# Altium integrated library Microchip Microcontroller 8-Bit PIC17.IntLib: 400 symbols (part 3 of 18)
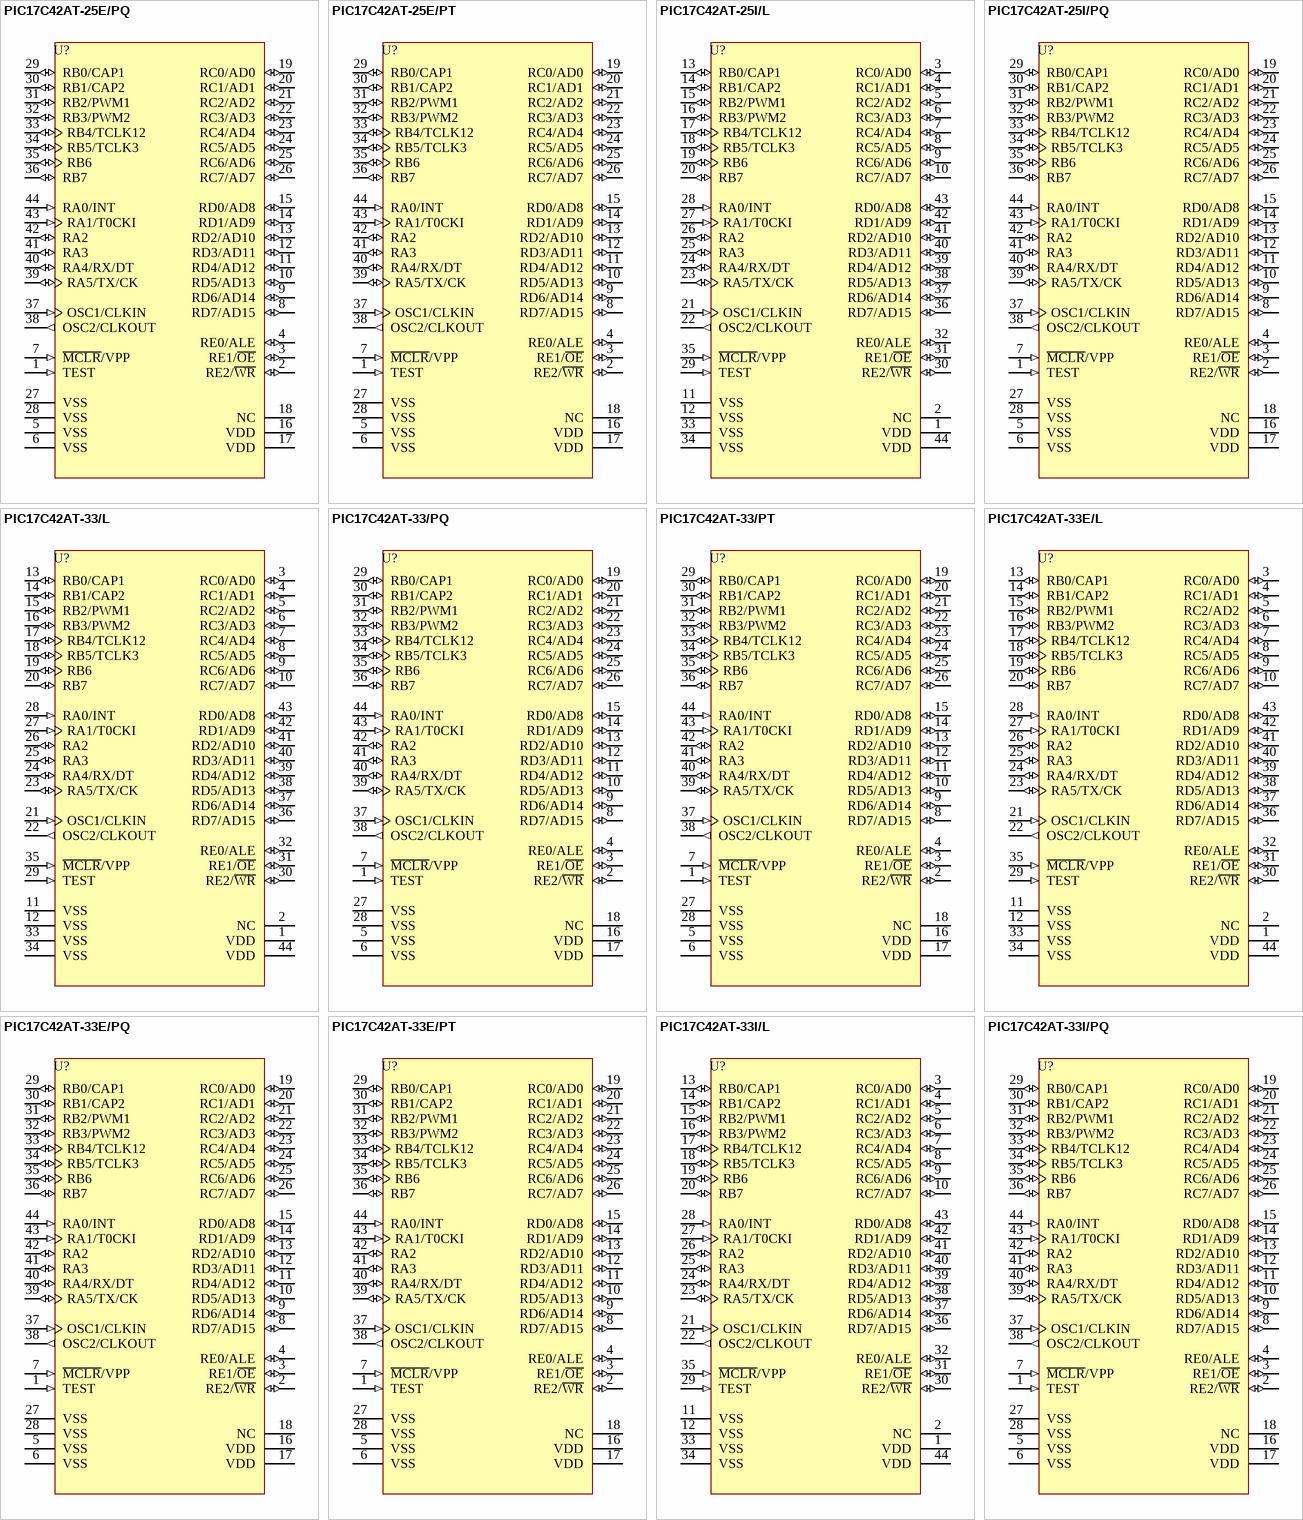
[diagram p44: symbols PIC17C42AT-25E/PQ to PIC17C42AT-33I/PQ]

## PIC17C42AT-25E/PQ
designator U?
High-Performance 8-Bit CMOS EPROM Microcontroller, 2K EPROM, 25 MHz, 44-Pin MQFP, Standard VDD Range, Extended Temperature, Tape and Reel; Note: Not recommended for new designs. Consider PIC18F4220 instead.; Note: Pins RA2 and RA3 can sink up to 60 mA.; Published: 11-Oct-2004; LatestRevisionDate: 13-Apr-2006; LatestRevisionNote: IPC-7351 Footprint Added.; DatasheetVersion: DS30412C_1996; PackageVersion: 2003; PackageReference: MQFP-44; Publisher: Altium Limited; PackageDescription: 44-Pin Plastic Metric Quad Flat Pack 0.8 mm Pitch, 1.6/0.15 mm Lead Form; Code_JEDEC: MS-022; Code_IPC: QFP80P1320X1320-44; ComponentLink1Description: Manufacturer Link; ComponentLink1URL: http://www.microchip.com; ComponentLink2Description: Datasheet; ComponentLink2URL: http://ww1.microchip.com/downloads/en/DeviceDoc/30412c.pdf; ComponentLink3Description: Packaging Specification; ComponentLink3URL: http://ww1.microchip.com/downloads/en/PackagingSpec/00049AD.pdf
footprint MQFP-44_N (QFP, 44-Leads, Body 10x10mm, Pitch 0.8mm, IPC Medium Density)
footprint MQFP-44_L (QFP, 44-Leads, Body 10x10mm, Pitch 0.8mm, IPC High Density)
footprint MQFP-44_M (QFP, 44-Leads, Body 10x10mm, Pitch 0.8mm, IPC Low Density)
3D model PIC17C42A-MQFP-44 (44-Pin Plastic Metric Quad Flat Pack 0.8 mm Pitch, 1.6/0.15 mm Lead Form)
pins: 1 TEST (in), 2 RE2/~{WR} (io), 3 RE1/~{OE} (io), 4 RE0/ALE (io), 5 VSS (power), 6 VSS (power), 7 ~{MCLR}/VPP (in), 8 RD7/AD15 (io), 9 RD6/AD14 (io), 10 RD5/AD13 (io), 11 RD4/AD12 (io), 12 RD3/AD11 (io), 13 RD2/AD10 (io), 14 RD1/AD9 (io), 15 RD0/AD8 (io), 16 VDD (power), 17 VDD (power), 18 NC, 19 RC0/AD0 (io), 20 RC1/AD1 (io), 21 RC2/AD2 (io), 22 RC3/AD3 (io), 23 RC4/AD4 (io), 24 RC5/AD5 (io), 25 RC6/AD6 (io), 26 RC7/AD7 (io), 27 VSS (power), 28 VSS (power), 29 RB0/CAP1 (io), 30 RB1/CAP2 (io), 31 RB2/PWM1 (io), 32 RB3/PWM2 (io), 33 RB4/TCLK12 (io), 34 RB5/TCLK3 (io), 35 RB6 (io), 36 RB7 (io), 37 OSC1/CLKIN (in), 38 OSC2/CLKOUT (out), 39 RA5/TX/CK (io), 40 RA4/RX/DT (io), 41 RA3 (io), 42 RA2 (io), 43 RA1/T0CKI (in), 44 RA0/INT (in)

## PIC17C42AT-25E/PT
designator U?
High-Performance 8-Bit CMOS EPROM Microcontroller, 2K EPROM, 25 MHz, 44-Pin TQFP, Standard VDD Range, Extended Temperature, Tape and Reel; Note: Not recommended for new designs. Consider PIC18F4220 instead.; Note: Pins RA2 and RA3 can sink up to 60 mA.; Published: 11-Oct-2004; LatestRevisionDate: 13-Apr-2006; LatestRevisionNote: IPC-7351 Footprint Added.; DatasheetVersion: DS30412C_1996; PackageVersion: 2003; PackageReference: TQFP-44; Publisher: Altium Limited; PackageDescription: 44-Pin Thin Quad Flat Pack 0.8 mm Pitch, 1.0/0.1 mm Lead Form; Code_JEDEC: MS-026; ComponentLink1Description: Manufacturer Link; ComponentLink1URL: http://www.microchip.com; ComponentLink2Description: Datasheet; ComponentLink2URL: http://ww1.microchip.com/downloads/en/DeviceDoc/30412c.pdf; ComponentLink3Description: Packaging Specification; ComponentLink3URL: http://ww1.microchip.com/downloads/en/PackagingSpec/00049AD.pdf
footprint TQFP-44_N (Thin QFP, 44-Leads, Body 10x10mm, Pitch 0.8mm, IPC Medium Density)
footprint TQFP-44_L (Thin QFP, 44-Leads, Body 10x10mm, Pitch 0.8mm, IPC High Density)
footprint TQFP-44_M (Thin QFP, 44-Leads, Body 10x10mm, Pitch 0.8mm, IPC Low Density)
3D model PIC17C42A-TQFP-44 (44-Pin Thin Quad Flat Pack 0.8 mm Pitch, 1.0/0.1 mm Lead Form)
pins: 1 TEST (in), 2 RE2/~{WR} (io), 3 RE1/~{OE} (io), 4 RE0/ALE (io), 5 VSS (power), 6 VSS (power), 7 ~{MCLR}/VPP (in), 8 RD7/AD15 (io), 9 RD6/AD14 (io), 10 RD5/AD13 (io), 11 RD4/AD12 (io), 12 RD3/AD11 (io), 13 RD2/AD10 (io), 14 RD1/AD9 (io), 15 RD0/AD8 (io), 16 VDD (power), 17 VDD (power), 18 NC, 19 RC0/AD0 (io), 20 RC1/AD1 (io), 21 RC2/AD2 (io), 22 RC3/AD3 (io), 23 RC4/AD4 (io), 24 RC5/AD5 (io), 25 RC6/AD6 (io), 26 RC7/AD7 (io), 27 VSS (power), 28 VSS (power), 29 RB0/CAP1 (io), 30 RB1/CAP2 (io), 31 RB2/PWM1 (io), 32 RB3/PWM2 (io), 33 RB4/TCLK12 (io), 34 RB5/TCLK3 (io), 35 RB6 (io), 36 RB7 (io), 37 OSC1/CLKIN (in), 38 OSC2/CLKOUT (out), 39 RA5/TX/CK (io), 40 RA4/RX/DT (io), 41 RA3 (io), 42 RA2 (io), 43 RA1/T0CKI (in), 44 RA0/INT (in)

## PIC17C42AT-25I/L
designator U?
High-Performance 8-Bit CMOS EPROM Microcontroller, 2K EPROM, 25 MHz, 44-Pin PLCC, Standard VDD Range, Industrial Temperature, Tape and Reel; Note: Not recommended for new designs. Consider PIC18F4220 instead.; Note: Pins RA2 and RA3 can sink up to 60 mA.; Published: 11-Oct-2004; LatestRevisionDate: 13-Apr-2006; LatestRevisionNote: IPC-7351 Footprint Added.; DatasheetVersion: DS30412C_1996; PackageVersion: 2003; PackageReference: PLCC-44; Publisher: Altium Limited; PackageDescription: 44-Pin Leaded Chip Carrier 1.27 mm Pitch; Code_JEDEC: MO-047; Code_IPC: PLCC-44; ComponentLink1Description: Manufacturer Link; ComponentLink1URL: http://www.microchip.com; ComponentLink2Description: Datasheet; ComponentLink2URL: http://ww1.microchip.com/downloads/en/DeviceDoc/30412c.pdf; ComponentLink3Description: Packaging Specification; ComponentLink3URL: http://ww1.microchip.com/downloads/en/PackagingSpec/00049AD.pdf
footprint PLCC-44_N (Leaded Chip Carrier, 44-Leads, Body 16.6x16.6mm, Pitch 1.27mm, IPC Medium Density)
footprint PLCC-44_L (Leaded Chip Carrier, 44-Leads, Body 16.6x16.6mm, Pitch 1.27mm, IPC High Density)
footprint PLCC-44_M (Leaded Chip Carrier, 44-Leads, Body 16.6x16.6mm, Pitch 1.27mm, IPC Low Density)
3D model PIC17C42A-PLCC-44 (44-Pin Leaded Chip Carrier 1.27 mm Pitch)
pins: 1 VDD (power), 2 NC, 3 RC0/AD0 (io), 4 RC1/AD1 (io), 5 RC2/AD2 (io), 6 RC3/AD3 (io), 7 RC4/AD4 (io), 8 RC5/AD5 (io), 9 RC6/AD6 (io), 10 RC7/AD7 (io), 11 VSS (power), 12 VSS (power), 13 RB0/CAP1 (io), 14 RB1/CAP2 (io), 15 RB2/PWM1 (io), 16 RB3/PWM2 (io), 17 RB4/TCLK12 (io), 18 RB5/TCLK3 (io), 19 RB6 (io), 20 RB7 (io), 21 OSC1/CLKIN (in), 22 OSC2/CLKOUT (out), 23 RA5/TX/CK (io), 24 RA4/RX/DT (io), 25 RA3 (io), 26 RA2 (io), 27 RA1/T0CKI (in), 28 RA0/INT (in), 29 TEST (in), 30 RE2/~{WR} (io), 31 RE1/~{OE} (io), 32 RE0/ALE (io), 33 VSS (power), 34 VSS (power), 35 ~{MCLR}/VPP (in), 36 RD7/AD15 (io), 37 RD6/AD14 (io), 38 RD5/AD13 (io), 39 RD4/AD12 (io), 40 RD3/AD11 (io), 41 RD2/AD10 (io), 42 RD1/AD9 (io), 43 RD0/AD8 (io), 44 VDD (power)

## PIC17C42AT-25I/PQ
designator U?
High-Performance 8-Bit CMOS EPROM Microcontroller, 2K EPROM, 25 MHz, 44-Pin MQFP, Standard VDD Range, Industrial Temperature, Tape and Reel; Note: Not recommended for new designs. Consider PIC18F4220 instead.; Note: Pins RA2 and RA3 can sink up to 60 mA.; Published: 11-Oct-2004; LatestRevisionDate: 13-Apr-2006; LatestRevisionNote: IPC-7351 Footprint Added.; DatasheetVersion: DS30412C_1996; PackageVersion: 2003; PackageReference: MQFP-44; Publisher: Altium Limited; PackageDescription: 44-Pin Plastic Metric Quad Flat Pack 0.8 mm Pitch, 1.6/0.15 mm Lead Form; Code_JEDEC: MS-022; Code_IPC: QFP80P1320X1320-44; ComponentLink1Description: Manufacturer Link; ComponentLink1URL: http://www.microchip.com; ComponentLink2Description: Datasheet; ComponentLink2URL: http://ww1.microchip.com/downloads/en/DeviceDoc/30412c.pdf; ComponentLink3Description: Packaging Specification; ComponentLink3URL: http://ww1.microchip.com/downloads/en/PackagingSpec/00049AD.pdf
footprint MQFP-44_N (QFP, 44-Leads, Body 10x10mm, Pitch 0.8mm, IPC Medium Density)
footprint MQFP-44_L (QFP, 44-Leads, Body 10x10mm, Pitch 0.8mm, IPC High Density)
footprint MQFP-44_M (QFP, 44-Leads, Body 10x10mm, Pitch 0.8mm, IPC Low Density)
3D model PIC17C42A-MQFP-44 (44-Pin Plastic Metric Quad Flat Pack 0.8 mm Pitch, 1.6/0.15 mm Lead Form)
pins: 1 TEST (in), 2 RE2/~{WR} (io), 3 RE1/~{OE} (io), 4 RE0/ALE (io), 5 VSS (power), 6 VSS (power), 7 ~{MCLR}/VPP (in), 8 RD7/AD15 (io), 9 RD6/AD14 (io), 10 RD5/AD13 (io), 11 RD4/AD12 (io), 12 RD3/AD11 (io), 13 RD2/AD10 (io), 14 RD1/AD9 (io), 15 RD0/AD8 (io), 16 VDD (power), 17 VDD (power), 18 NC, 19 RC0/AD0 (io), 20 RC1/AD1 (io), 21 RC2/AD2 (io), 22 RC3/AD3 (io), 23 RC4/AD4 (io), 24 RC5/AD5 (io), 25 RC6/AD6 (io), 26 RC7/AD7 (io), 27 VSS (power), 28 VSS (power), 29 RB0/CAP1 (io), 30 RB1/CAP2 (io), 31 RB2/PWM1 (io), 32 RB3/PWM2 (io), 33 RB4/TCLK12 (io), 34 RB5/TCLK3 (io), 35 RB6 (io), 36 RB7 (io), 37 OSC1/CLKIN (in), 38 OSC2/CLKOUT (out), 39 RA5/TX/CK (io), 40 RA4/RX/DT (io), 41 RA3 (io), 42 RA2 (io), 43 RA1/T0CKI (in), 44 RA0/INT (in)

## PIC17C42AT-33/L
designator U?
High-Performance 8-Bit CMOS EPROM Microcontroller, 2K EPROM, 33 MHz, 44-Pin PLCC, Standard VDD Range, Commercial Temperature, Tape and Reel; Note: Not recommended for new designs. Consider PIC18F4220 instead.; Note: Pins RA2 and RA3 can sink up to 60 mA.; Published: 11-Oct-2004; LatestRevisionDate: 13-Apr-2006; LatestRevisionNote: IPC-7351 Footprint Added.; DatasheetVersion: DS30412C_1996; PackageVersion: 2003; PackageReference: PLCC-44; Publisher: Altium Limited; PackageDescription: 44-Pin Leaded Chip Carrier 1.27 mm Pitch; Code_JEDEC: MO-047; Code_IPC: PLCC-44; ComponentLink1Description: Manufacturer Link; ComponentLink1URL: http://www.microchip.com; ComponentLink2Description: Datasheet; ComponentLink2URL: http://ww1.microchip.com/downloads/en/DeviceDoc/30412c.pdf; ComponentLink3Description: Packaging Specification; ComponentLink3URL: http://ww1.microchip.com/downloads/en/PackagingSpec/00049AD.pdf
footprint PLCC-44_N (Leaded Chip Carrier, 44-Leads, Body 16.6x16.6mm, Pitch 1.27mm, IPC Medium Density)
footprint PLCC-44_L (Leaded Chip Carrier, 44-Leads, Body 16.6x16.6mm, Pitch 1.27mm, IPC High Density)
footprint PLCC-44_M (Leaded Chip Carrier, 44-Leads, Body 16.6x16.6mm, Pitch 1.27mm, IPC Low Density)
3D model PIC17C42A-PLCC-44 (44-Pin Leaded Chip Carrier 1.27 mm Pitch)
pins: 1 VDD (power), 2 NC, 3 RC0/AD0 (io), 4 RC1/AD1 (io), 5 RC2/AD2 (io), 6 RC3/AD3 (io), 7 RC4/AD4 (io), 8 RC5/AD5 (io), 9 RC6/AD6 (io), 10 RC7/AD7 (io), 11 VSS (power), 12 VSS (power), 13 RB0/CAP1 (io), 14 RB1/CAP2 (io), 15 RB2/PWM1 (io), 16 RB3/PWM2 (io), 17 RB4/TCLK12 (io), 18 RB5/TCLK3 (io), 19 RB6 (io), 20 RB7 (io), 21 OSC1/CLKIN (in), 22 OSC2/CLKOUT (out), 23 RA5/TX/CK (io), 24 RA4/RX/DT (io), 25 RA3 (io), 26 RA2 (io), 27 RA1/T0CKI (in), 28 RA0/INT (in), 29 TEST (in), 30 RE2/~{WR} (io), 31 RE1/~{OE} (io), 32 RE0/ALE (io), 33 VSS (power), 34 VSS (power), 35 ~{MCLR}/VPP (in), 36 RD7/AD15 (io), 37 RD6/AD14 (io), 38 RD5/AD13 (io), 39 RD4/AD12 (io), 40 RD3/AD11 (io), 41 RD2/AD10 (io), 42 RD1/AD9 (io), 43 RD0/AD8 (io), 44 VDD (power)

## PIC17C42AT-33/PQ
designator U?
High-Performance 8-Bit CMOS EPROM Microcontroller, 2K EPROM, 33 MHz, 44-Pin MQFP, Standard VDD Range, Commercial Temperature, Tape and Reel; Note: Not recommended for new designs. Consider PIC18F4220 instead.; Note: Pins RA2 and RA3 can sink up to 60 mA.; Published: 11-Oct-2004; LatestRevisionDate: 13-Apr-2006; LatestRevisionNote: IPC-7351 Footprint Added.; DatasheetVersion: DS30412C_1996; PackageVersion: 2003; PackageReference: MQFP-44; Publisher: Altium Limited; PackageDescription: 44-Pin Plastic Metric Quad Flat Pack 0.8 mm Pitch, 1.6/0.15 mm Lead Form; Code_JEDEC: MS-022; Code_IPC: QFP80P1320X1320-44; ComponentLink1Description: Manufacturer Link; ComponentLink1URL: http://www.microchip.com; ComponentLink2Description: Datasheet; ComponentLink2URL: http://ww1.microchip.com/downloads/en/DeviceDoc/30412c.pdf; ComponentLink3Description: Packaging Specification; ComponentLink3URL: http://ww1.microchip.com/downloads/en/PackagingSpec/00049AD.pdf
footprint MQFP-44_N (QFP, 44-Leads, Body 10x10mm, Pitch 0.8mm, IPC Medium Density)
footprint MQFP-44_L (QFP, 44-Leads, Body 10x10mm, Pitch 0.8mm, IPC High Density)
footprint MQFP-44_M (QFP, 44-Leads, Body 10x10mm, Pitch 0.8mm, IPC Low Density)
3D model PIC17C42A-MQFP-44 (44-Pin Plastic Metric Quad Flat Pack 0.8 mm Pitch, 1.6/0.15 mm Lead Form)
pins: 1 TEST (in), 2 RE2/~{WR} (io), 3 RE1/~{OE} (io), 4 RE0/ALE (io), 5 VSS (power), 6 VSS (power), 7 ~{MCLR}/VPP (in), 8 RD7/AD15 (io), 9 RD6/AD14 (io), 10 RD5/AD13 (io), 11 RD4/AD12 (io), 12 RD3/AD11 (io), 13 RD2/AD10 (io), 14 RD1/AD9 (io), 15 RD0/AD8 (io), 16 VDD (power), 17 VDD (power), 18 NC, 19 RC0/AD0 (io), 20 RC1/AD1 (io), 21 RC2/AD2 (io), 22 RC3/AD3 (io), 23 RC4/AD4 (io), 24 RC5/AD5 (io), 25 RC6/AD6 (io), 26 RC7/AD7 (io), 27 VSS (power), 28 VSS (power), 29 RB0/CAP1 (io), 30 RB1/CAP2 (io), 31 RB2/PWM1 (io), 32 RB3/PWM2 (io), 33 RB4/TCLK12 (io), 34 RB5/TCLK3 (io), 35 RB6 (io), 36 RB7 (io), 37 OSC1/CLKIN (in), 38 OSC2/CLKOUT (out), 39 RA5/TX/CK (io), 40 RA4/RX/DT (io), 41 RA3 (io), 42 RA2 (io), 43 RA1/T0CKI (in), 44 RA0/INT (in)

## PIC17C42AT-33/PT
designator U?
High-Performance 8-Bit CMOS EPROM Microcontroller, 2K EPROM, 33 MHz, 44-Pin TQFP, Standard VDD Range, Commercial Temperature, Tape and Reel; Note: Not recommended for new designs. Consider PIC18F4220 instead.; Note: Pins RA2 and RA3 can sink up to 60 mA.; Published: 11-Oct-2004; LatestRevisionDate: 13-Apr-2006; LatestRevisionNote: IPC-7351 Footprint Added.; DatasheetVersion: DS30412C_1996; PackageVersion: 2003; PackageReference: TQFP-44; Publisher: Altium Limited; PackageDescription: 44-Pin Thin Quad Flat Pack 0.8 mm Pitch, 1.0/0.1 mm Lead Form; Code_JEDEC: MS-026; ComponentLink1Description: Manufacturer Link; ComponentLink1URL: http://www.microchip.com; ComponentLink2Description: Datasheet; ComponentLink2URL: http://ww1.microchip.com/downloads/en/DeviceDoc/30412c.pdf; ComponentLink3Description: Packaging Specification; ComponentLink3URL: http://ww1.microchip.com/downloads/en/PackagingSpec/00049AD.pdf
footprint TQFP-44_N (Thin QFP, 44-Leads, Body 10x10mm, Pitch 0.8mm, IPC Medium Density)
footprint TQFP-44_L (Thin QFP, 44-Leads, Body 10x10mm, Pitch 0.8mm, IPC High Density)
footprint TQFP-44_M (Thin QFP, 44-Leads, Body 10x10mm, Pitch 0.8mm, IPC Low Density)
3D model PIC17C42A-TQFP-44 (44-Pin Thin Quad Flat Pack 0.8 mm Pitch, 1.0/0.1 mm Lead Form)
pins: 1 TEST (in), 2 RE2/~{WR} (io), 3 RE1/~{OE} (io), 4 RE0/ALE (io), 5 VSS (power), 6 VSS (power), 7 ~{MCLR}/VPP (in), 8 RD7/AD15 (io), 9 RD6/AD14 (io), 10 RD5/AD13 (io), 11 RD4/AD12 (io), 12 RD3/AD11 (io), 13 RD2/AD10 (io), 14 RD1/AD9 (io), 15 RD0/AD8 (io), 16 VDD (power), 17 VDD (power), 18 NC, 19 RC0/AD0 (io), 20 RC1/AD1 (io), 21 RC2/AD2 (io), 22 RC3/AD3 (io), 23 RC4/AD4 (io), 24 RC5/AD5 (io), 25 RC6/AD6 (io), 26 RC7/AD7 (io), 27 VSS (power), 28 VSS (power), 29 RB0/CAP1 (io), 30 RB1/CAP2 (io), 31 RB2/PWM1 (io), 32 RB3/PWM2 (io), 33 RB4/TCLK12 (io), 34 RB5/TCLK3 (io), 35 RB6 (io), 36 RB7 (io), 37 OSC1/CLKIN (in), 38 OSC2/CLKOUT (out), 39 RA5/TX/CK (io), 40 RA4/RX/DT (io), 41 RA3 (io), 42 RA2 (io), 43 RA1/T0CKI (in), 44 RA0/INT (in)

## PIC17C42AT-33E/L
designator U?
High-Performance 8-Bit CMOS EPROM Microcontroller, 2K EPROM, 33 MHz, 44-Pin PLCC, Standard VDD Range, Extended Temperature, Tape and Reel; Note: Not recommended for new designs. Consider PIC18F4220 instead.; Note: Pins RA2 and RA3 can sink up to 60 mA.; Published: 11-Oct-2004; LatestRevisionDate: 13-Apr-2006; LatestRevisionNote: IPC-7351 Footprint Added.; DatasheetVersion: DS30412C_1996; PackageVersion: 2003; PackageReference: PLCC-44; Publisher: Altium Limited; PackageDescription: 44-Pin Leaded Chip Carrier 1.27 mm Pitch; Code_JEDEC: MO-047; Code_IPC: PLCC-44; ComponentLink1Description: Manufacturer Link; ComponentLink1URL: http://www.microchip.com; ComponentLink2Description: Datasheet; ComponentLink2URL: http://ww1.microchip.com/downloads/en/DeviceDoc/30412c.pdf; ComponentLink3Description: Packaging Specification; ComponentLink3URL: http://ww1.microchip.com/downloads/en/PackagingSpec/00049AD.pdf
footprint PLCC-44_N (Leaded Chip Carrier, 44-Leads, Body 16.6x16.6mm, Pitch 1.27mm, IPC Medium Density)
footprint PLCC-44_L (Leaded Chip Carrier, 44-Leads, Body 16.6x16.6mm, Pitch 1.27mm, IPC High Density)
footprint PLCC-44_M (Leaded Chip Carrier, 44-Leads, Body 16.6x16.6mm, Pitch 1.27mm, IPC Low Density)
3D model PIC17C42A-PLCC-44 (44-Pin Leaded Chip Carrier 1.27 mm Pitch)
pins: 1 VDD (power), 2 NC, 3 RC0/AD0 (io), 4 RC1/AD1 (io), 5 RC2/AD2 (io), 6 RC3/AD3 (io), 7 RC4/AD4 (io), 8 RC5/AD5 (io), 9 RC6/AD6 (io), 10 RC7/AD7 (io), 11 VSS (power), 12 VSS (power), 13 RB0/CAP1 (io), 14 RB1/CAP2 (io), 15 RB2/PWM1 (io), 16 RB3/PWM2 (io), 17 RB4/TCLK12 (io), 18 RB5/TCLK3 (io), 19 RB6 (io), 20 RB7 (io), 21 OSC1/CLKIN (in), 22 OSC2/CLKOUT (out), 23 RA5/TX/CK (io), 24 RA4/RX/DT (io), 25 RA3 (io), 26 RA2 (io), 27 RA1/T0CKI (in), 28 RA0/INT (in), 29 TEST (in), 30 RE2/~{WR} (io), 31 RE1/~{OE} (io), 32 RE0/ALE (io), 33 VSS (power), 34 VSS (power), 35 ~{MCLR}/VPP (in), 36 RD7/AD15 (io), 37 RD6/AD14 (io), 38 RD5/AD13 (io), 39 RD4/AD12 (io), 40 RD3/AD11 (io), 41 RD2/AD10 (io), 42 RD1/AD9 (io), 43 RD0/AD8 (io), 44 VDD (power)

## PIC17C42AT-33E/PQ
designator U?
High-Performance 8-Bit CMOS EPROM Microcontroller, 2K EPROM, 33 MHz, 44-Pin MQFP, Standard VDD Range, Extended Temperature, Tape and Reel; Note: Not recommended for new designs. Consider PIC18F4220 instead.; Note: Pins RA2 and RA3 can sink up to 60 mA.; Published: 11-Oct-2004; LatestRevisionDate: 13-Apr-2006; LatestRevisionNote: IPC-7351 Footprint Added.; DatasheetVersion: DS30412C_1996; PackageVersion: 2003; PackageReference: MQFP-44; Publisher: Altium Limited; PackageDescription: 44-Pin Plastic Metric Quad Flat Pack 0.8 mm Pitch, 1.6/0.15 mm Lead Form; Code_JEDEC: MS-022; Code_IPC: QFP80P1320X1320-44; ComponentLink1Description: Manufacturer Link; ComponentLink1URL: http://www.microchip.com; ComponentLink2Description: Datasheet; ComponentLink2URL: http://ww1.microchip.com/downloads/en/DeviceDoc/30412c.pdf; ComponentLink3Description: Packaging Specification; ComponentLink3URL: http://ww1.microchip.com/downloads/en/PackagingSpec/00049AD.pdf
footprint MQFP-44_N (QFP, 44-Leads, Body 10x10mm, Pitch 0.8mm, IPC Medium Density)
footprint MQFP-44_L (QFP, 44-Leads, Body 10x10mm, Pitch 0.8mm, IPC High Density)
footprint MQFP-44_M (QFP, 44-Leads, Body 10x10mm, Pitch 0.8mm, IPC Low Density)
3D model PIC17C42A-MQFP-44 (44-Pin Plastic Metric Quad Flat Pack 0.8 mm Pitch, 1.6/0.15 mm Lead Form)
pins: 1 TEST (in), 2 RE2/~{WR} (io), 3 RE1/~{OE} (io), 4 RE0/ALE (io), 5 VSS (power), 6 VSS (power), 7 ~{MCLR}/VPP (in), 8 RD7/AD15 (io), 9 RD6/AD14 (io), 10 RD5/AD13 (io), 11 RD4/AD12 (io), 12 RD3/AD11 (io), 13 RD2/AD10 (io), 14 RD1/AD9 (io), 15 RD0/AD8 (io), 16 VDD (power), 17 VDD (power), 18 NC, 19 RC0/AD0 (io), 20 RC1/AD1 (io), 21 RC2/AD2 (io), 22 RC3/AD3 (io), 23 RC4/AD4 (io), 24 RC5/AD5 (io), 25 RC6/AD6 (io), 26 RC7/AD7 (io), 27 VSS (power), 28 VSS (power), 29 RB0/CAP1 (io), 30 RB1/CAP2 (io), 31 RB2/PWM1 (io), 32 RB3/PWM2 (io), 33 RB4/TCLK12 (io), 34 RB5/TCLK3 (io), 35 RB6 (io), 36 RB7 (io), 37 OSC1/CLKIN (in), 38 OSC2/CLKOUT (out), 39 RA5/TX/CK (io), 40 RA4/RX/DT (io), 41 RA3 (io), 42 RA2 (io), 43 RA1/T0CKI (in), 44 RA0/INT (in)

## PIC17C42AT-33E/PT
designator U?
High-Performance 8-Bit CMOS EPROM Microcontroller, 2K EPROM, 33 MHz, 44-Pin TQFP, Standard VDD Range, Extended Temperature, Tape and Reel; Note: Not recommended for new designs. Consider PIC18F4220 instead.; Note: Pins RA2 and RA3 can sink up to 60 mA.; Published: 11-Oct-2004; LatestRevisionDate: 13-Apr-2006; LatestRevisionNote: IPC-7351 Footprint Added.; DatasheetVersion: DS30412C_1996; PackageVersion: 2003; PackageReference: TQFP-44; Publisher: Altium Limited; PackageDescription: 44-Pin Thin Quad Flat Pack 0.8 mm Pitch, 1.0/0.1 mm Lead Form; Code_JEDEC: MS-026; ComponentLink1Description: Manufacturer Link; ComponentLink1URL: http://www.microchip.com; ComponentLink2Description: Datasheet; ComponentLink2URL: http://ww1.microchip.com/downloads/en/DeviceDoc/30412c.pdf; ComponentLink3Description: Packaging Specification; ComponentLink3URL: http://ww1.microchip.com/downloads/en/PackagingSpec/00049AD.pdf
footprint TQFP-44_N (Thin QFP, 44-Leads, Body 10x10mm, Pitch 0.8mm, IPC Medium Density)
footprint TQFP-44_L (Thin QFP, 44-Leads, Body 10x10mm, Pitch 0.8mm, IPC High Density)
footprint TQFP-44_M (Thin QFP, 44-Leads, Body 10x10mm, Pitch 0.8mm, IPC Low Density)
3D model PIC17C42A-TQFP-44 (44-Pin Thin Quad Flat Pack 0.8 mm Pitch, 1.0/0.1 mm Lead Form)
pins: 1 TEST (in), 2 RE2/~{WR} (io), 3 RE1/~{OE} (io), 4 RE0/ALE (io), 5 VSS (power), 6 VSS (power), 7 ~{MCLR}/VPP (in), 8 RD7/AD15 (io), 9 RD6/AD14 (io), 10 RD5/AD13 (io), 11 RD4/AD12 (io), 12 RD3/AD11 (io), 13 RD2/AD10 (io), 14 RD1/AD9 (io), 15 RD0/AD8 (io), 16 VDD (power), 17 VDD (power), 18 NC, 19 RC0/AD0 (io), 20 RC1/AD1 (io), 21 RC2/AD2 (io), 22 RC3/AD3 (io), 23 RC4/AD4 (io), 24 RC5/AD5 (io), 25 RC6/AD6 (io), 26 RC7/AD7 (io), 27 VSS (power), 28 VSS (power), 29 RB0/CAP1 (io), 30 RB1/CAP2 (io), 31 RB2/PWM1 (io), 32 RB3/PWM2 (io), 33 RB4/TCLK12 (io), 34 RB5/TCLK3 (io), 35 RB6 (io), 36 RB7 (io), 37 OSC1/CLKIN (in), 38 OSC2/CLKOUT (out), 39 RA5/TX/CK (io), 40 RA4/RX/DT (io), 41 RA3 (io), 42 RA2 (io), 43 RA1/T0CKI (in), 44 RA0/INT (in)

## PIC17C42AT-33I/L
designator U?
High-Performance 8-Bit CMOS EPROM Microcontroller, 2K EPROM, 33 MHz, 44-Pin PLCC, Standard VDD Range, Industrial Temperature, Tape and Reel; Note: Not recommended for new designs. Consider PIC18F4220 instead.; Note: Pins RA2 and RA3 can sink up to 60 mA.; Published: 11-Oct-2004; LatestRevisionDate: 13-Apr-2006; LatestRevisionNote: IPC-7351 Footprint Added.; DatasheetVersion: DS30412C_1996; PackageVersion: 2003; PackageReference: PLCC-44; Publisher: Altium Limited; PackageDescription: 44-Pin Leaded Chip Carrier 1.27 mm Pitch; Code_JEDEC: MO-047; Code_IPC: PLCC-44; ComponentLink1Description: Manufacturer Link; ComponentLink1URL: http://www.microchip.com; ComponentLink2Description: Datasheet; ComponentLink2URL: http://ww1.microchip.com/downloads/en/DeviceDoc/30412c.pdf; ComponentLink3Description: Packaging Specification; ComponentLink3URL: http://ww1.microchip.com/downloads/en/PackagingSpec/00049AD.pdf
footprint PLCC-44_N (Leaded Chip Carrier, 44-Leads, Body 16.6x16.6mm, Pitch 1.27mm, IPC Medium Density)
footprint PLCC-44_L (Leaded Chip Carrier, 44-Leads, Body 16.6x16.6mm, Pitch 1.27mm, IPC High Density)
footprint PLCC-44_M (Leaded Chip Carrier, 44-Leads, Body 16.6x16.6mm, Pitch 1.27mm, IPC Low Density)
3D model PIC17C42A-PLCC-44 (44-Pin Leaded Chip Carrier 1.27 mm Pitch)
pins: 1 VDD (power), 2 NC, 3 RC0/AD0 (io), 4 RC1/AD1 (io), 5 RC2/AD2 (io), 6 RC3/AD3 (io), 7 RC4/AD4 (io), 8 RC5/AD5 (io), 9 RC6/AD6 (io), 10 RC7/AD7 (io), 11 VSS (power), 12 VSS (power), 13 RB0/CAP1 (io), 14 RB1/CAP2 (io), 15 RB2/PWM1 (io), 16 RB3/PWM2 (io), 17 RB4/TCLK12 (io), 18 RB5/TCLK3 (io), 19 RB6 (io), 20 RB7 (io), 21 OSC1/CLKIN (in), 22 OSC2/CLKOUT (out), 23 RA5/TX/CK (io), 24 RA4/RX/DT (io), 25 RA3 (io), 26 RA2 (io), 27 RA1/T0CKI (in), 28 RA0/INT (in), 29 TEST (in), 30 RE2/~{WR} (io), 31 RE1/~{OE} (io), 32 RE0/ALE (io), 33 VSS (power), 34 VSS (power), 35 ~{MCLR}/VPP (in), 36 RD7/AD15 (io), 37 RD6/AD14 (io), 38 RD5/AD13 (io), 39 RD4/AD12 (io), 40 RD3/AD11 (io), 41 RD2/AD10 (io), 42 RD1/AD9 (io), 43 RD0/AD8 (io), 44 VDD (power)

## PIC17C42AT-33I/PQ
designator U?
High-Performance 8-Bit CMOS EPROM Microcontroller, 2K EPROM, 33 MHz, 44-Pin MQFP, Standard VDD Range, Industrial Temperature, Tape and Reel; Note: Not recommended for new designs. Consider PIC18F4220 instead.; Note: Pins RA2 and RA3 can sink up to 60 mA.; Published: 11-Oct-2004; LatestRevisionDate: 13-Apr-2006; LatestRevisionNote: IPC-7351 Footprint Added.; DatasheetVersion: DS30412C_1996; PackageVersion: 2003; PackageReference: MQFP-44; Publisher: Altium Limited; PackageDescription: 44-Pin Plastic Metric Quad Flat Pack 0.8 mm Pitch, 1.6/0.15 mm Lead Form; Code_JEDEC: MS-022; Code_IPC: QFP80P1320X1320-44; ComponentLink1Description: Manufacturer Link; ComponentLink1URL: http://www.microchip.com; ComponentLink2Description: Datasheet; ComponentLink2URL: http://ww1.microchip.com/downloads/en/DeviceDoc/30412c.pdf; ComponentLink3Description: Packaging Specification; ComponentLink3URL: http://ww1.microchip.com/downloads/en/PackagingSpec/00049AD.pdf
footprint MQFP-44_N (QFP, 44-Leads, Body 10x10mm, Pitch 0.8mm, IPC Medium Density)
footprint MQFP-44_L (QFP, 44-Leads, Body 10x10mm, Pitch 0.8mm, IPC High Density)
footprint MQFP-44_M (QFP, 44-Leads, Body 10x10mm, Pitch 0.8mm, IPC Low Density)
3D model PIC17C42A-MQFP-44 (44-Pin Plastic Metric Quad Flat Pack 0.8 mm Pitch, 1.6/0.15 mm Lead Form)
pins: 1 TEST (in), 2 RE2/~{WR} (io), 3 RE1/~{OE} (io), 4 RE0/ALE (io), 5 VSS (power), 6 VSS (power), 7 ~{MCLR}/VPP (in), 8 RD7/AD15 (io), 9 RD6/AD14 (io), 10 RD5/AD13 (io), 11 RD4/AD12 (io), 12 RD3/AD11 (io), 13 RD2/AD10 (io), 14 RD1/AD9 (io), 15 RD0/AD8 (io), 16 VDD (power), 17 VDD (power), 18 NC, 19 RC0/AD0 (io), 20 RC1/AD1 (io), 21 RC2/AD2 (io), 22 RC3/AD3 (io), 23 RC4/AD4 (io), 24 RC5/AD5 (io), 25 RC6/AD6 (io), 26 RC7/AD7 (io), 27 VSS (power), 28 VSS (power), 29 RB0/CAP1 (io), 30 RB1/CAP2 (io), 31 RB2/PWM1 (io), 32 RB3/PWM2 (io), 33 RB4/TCLK12 (io), 34 RB5/TCLK3 (io), 35 RB6 (io), 36 RB7 (io), 37 OSC1/CLKIN (in), 38 OSC2/CLKOUT (out), 39 RA5/TX/CK (io), 40 RA4/RX/DT (io), 41 RA3 (io), 42 RA2 (io), 43 RA1/T0CKI (in), 44 RA0/INT (in)

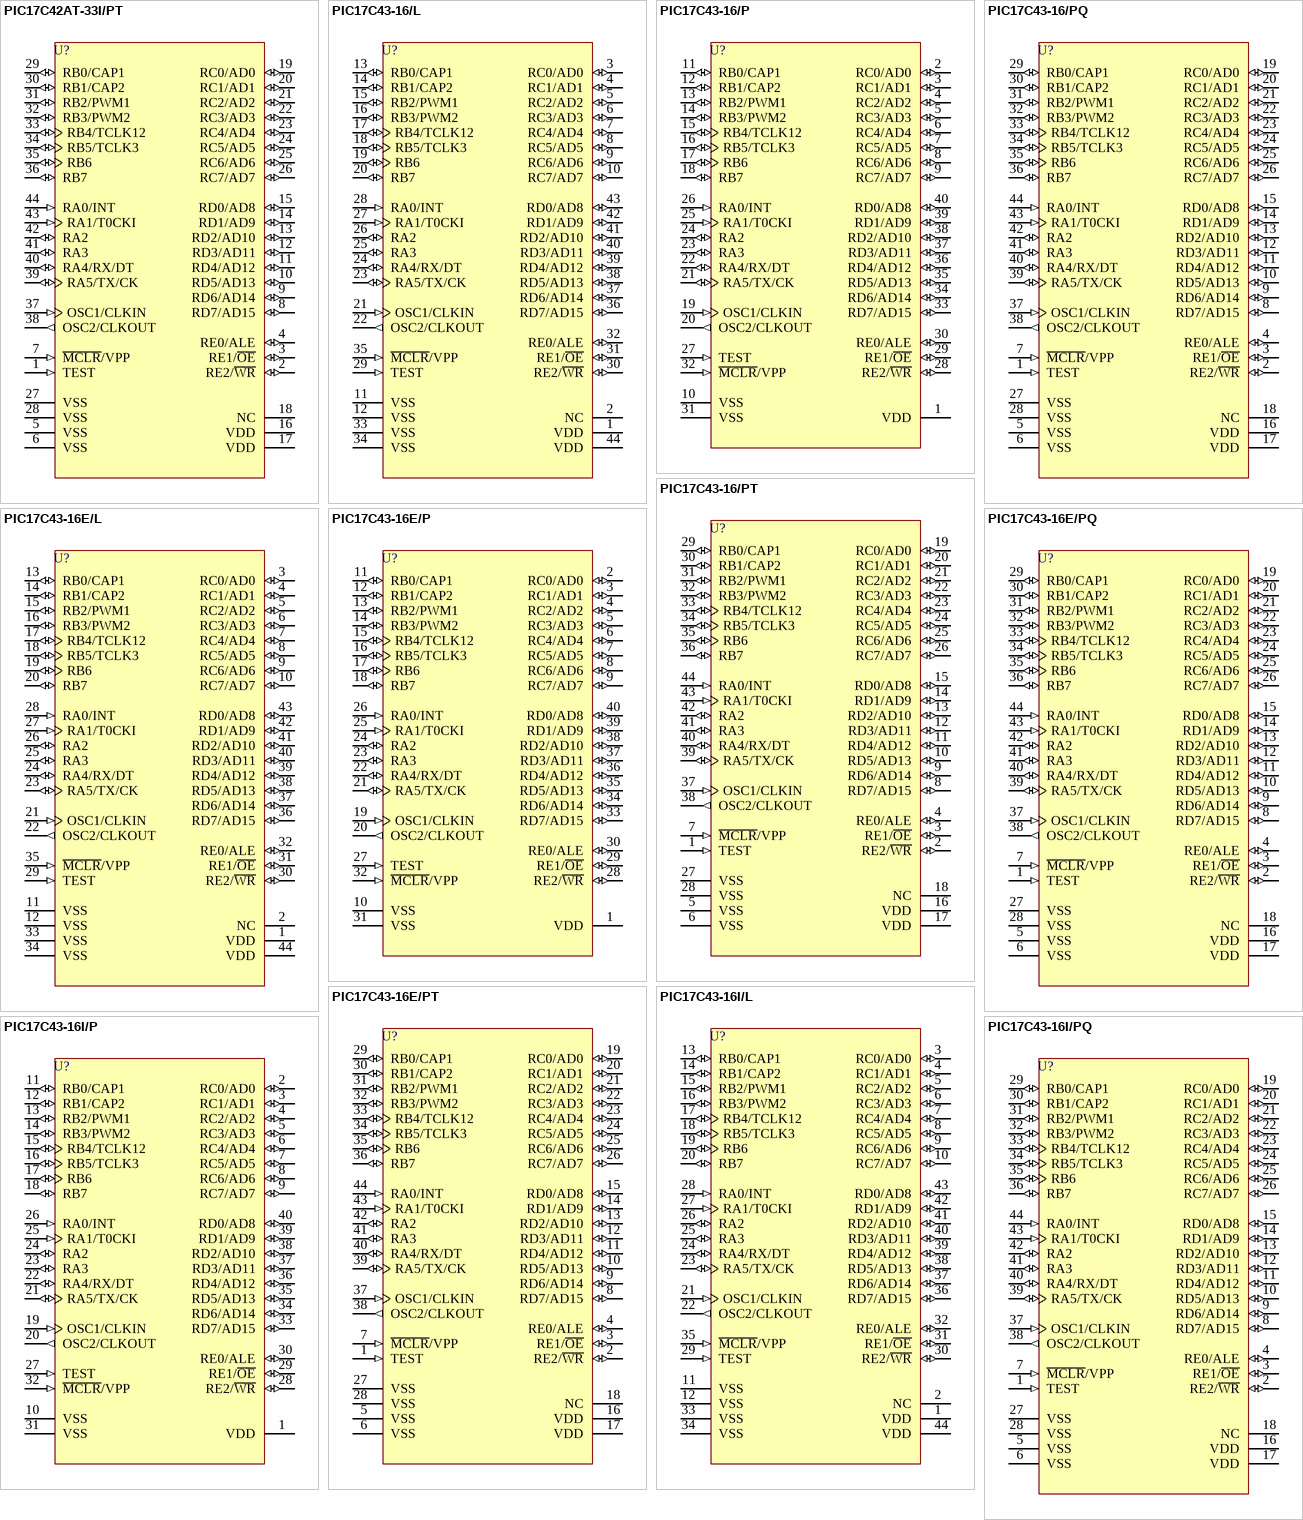
[diagram p5: symbols PIC17C42AT-33I/PT to PIC17C43-16I/PQ]

## PIC17C42AT-33I/PT
designator U?
High-Performance 8-Bit CMOS EPROM Microcontroller, 2K EPROM, 33 MHz, 44-Pin TQFP, Standard VDD Range, Industrial Temperature, Tape and Reel; Note: Not recommended for new designs. Consider PIC18F4220 instead.; Note: Pins RA2 and RA3 can sink up to 60 mA.; Published: 11-Oct-2004; LatestRevisionDate: 13-Apr-2006; LatestRevisionNote: IPC-7351 Footprint Added.; DatasheetVersion: DS30412C_1996; PackageVersion: 2003; PackageReference: TQFP-44; Publisher: Altium Limited; PackageDescription: 44-Pin Thin Quad Flat Pack 0.8 mm Pitch, 1.0/0.1 mm Lead Form; Code_JEDEC: MS-026; ComponentLink1Description: Manufacturer Link; ComponentLink1URL: http://www.microchip.com; ComponentLink2Description: Datasheet; ComponentLink2URL: http://ww1.microchip.com/downloads/en/DeviceDoc/30412c.pdf; ComponentLink3Description: Packaging Specification; ComponentLink3URL: http://ww1.microchip.com/downloads/en/PackagingSpec/00049AD.pdf
footprint TQFP-44_N (Thin QFP, 44-Leads, Body 10x10mm, Pitch 0.8mm, IPC Medium Density)
footprint TQFP-44_L (Thin QFP, 44-Leads, Body 10x10mm, Pitch 0.8mm, IPC High Density)
footprint TQFP-44_M (Thin QFP, 44-Leads, Body 10x10mm, Pitch 0.8mm, IPC Low Density)
3D model PIC17C42A-TQFP-44 (44-Pin Thin Quad Flat Pack 0.8 mm Pitch, 1.0/0.1 mm Lead Form)
pins: 1 TEST (in), 2 RE2/~{WR} (io), 3 RE1/~{OE} (io), 4 RE0/ALE (io), 5 VSS (power), 6 VSS (power), 7 ~{MCLR}/VPP (in), 8 RD7/AD15 (io), 9 RD6/AD14 (io), 10 RD5/AD13 (io), 11 RD4/AD12 (io), 12 RD3/AD11 (io), 13 RD2/AD10 (io), 14 RD1/AD9 (io), 15 RD0/AD8 (io), 16 VDD (power), 17 VDD (power), 18 NC, 19 RC0/AD0 (io), 20 RC1/AD1 (io), 21 RC2/AD2 (io), 22 RC3/AD3 (io), 23 RC4/AD4 (io), 24 RC5/AD5 (io), 25 RC6/AD6 (io), 26 RC7/AD7 (io), 27 VSS (power), 28 VSS (power), 29 RB0/CAP1 (io), 30 RB1/CAP2 (io), 31 RB2/PWM1 (io), 32 RB3/PWM2 (io), 33 RB4/TCLK12 (io), 34 RB5/TCLK3 (io), 35 RB6 (io), 36 RB7 (io), 37 OSC1/CLKIN (in), 38 OSC2/CLKOUT (out), 39 RA5/TX/CK (io), 40 RA4/RX/DT (io), 41 RA3 (io), 42 RA2 (io), 43 RA1/T0CKI (in), 44 RA0/INT (in)

## PIC17C43-16/L
designator U?
High-Performance 8-Bit CMOS EPROM Microcontroller, 4K EPROM, 16 MHz, 44-Pin PLCC, Standard VDD Range, Commercial Temperature; Note: Not recommended for new designs. Consider PIC18F4320 instead.; Note: Pins RA2 and RA3 can sink up to 60 mA.; Published: 11-Oct-2004; LatestRevisionDate: 13-Apr-2006; LatestRevisionNote: IPC-7351 Footprint Added.; DatasheetVersion: DS30412C_1996; PackageVersion: 2003; PackageReference: PLCC-44; Publisher: Altium Limited; PackageDescription: 44-Pin Leaded Chip Carrier 1.27 mm Pitch; Code_JEDEC: MO-047; Code_IPC: PLCC-44; ComponentLink1Description: Manufacturer Link; ComponentLink1URL: http://www.microchip.com; ComponentLink2Description: Datasheet; ComponentLink2URL: http://ww1.microchip.com/downloads/en/DeviceDoc/30412c.pdf; ComponentLink3Description: Packaging Specification; ComponentLink3URL: http://ww1.microchip.com/downloads/en/PackagingSpec/00049AD.pdf
footprint PLCC-44_N (Leaded Chip Carrier, 44-Leads, Body 16.6x16.6mm, Pitch 1.27mm, IPC Medium Density)
footprint PLCC-44_L (Leaded Chip Carrier, 44-Leads, Body 16.6x16.6mm, Pitch 1.27mm, IPC High Density)
footprint PLCC-44_M (Leaded Chip Carrier, 44-Leads, Body 16.6x16.6mm, Pitch 1.27mm, IPC Low Density)
3D model PIC17C43-PLCC-44 (44-Pin Leaded Chip Carrier 1.27 mm Pitch)
pins: 1 VDD (power), 2 NC, 3 RC0/AD0 (io), 4 RC1/AD1 (io), 5 RC2/AD2 (io), 6 RC3/AD3 (io), 7 RC4/AD4 (io), 8 RC5/AD5 (io), 9 RC6/AD6 (io), 10 RC7/AD7 (io), 11 VSS (power), 12 VSS (power), 13 RB0/CAP1 (io), 14 RB1/CAP2 (io), 15 RB2/PWM1 (io), 16 RB3/PWM2 (io), 17 RB4/TCLK12 (io), 18 RB5/TCLK3 (io), 19 RB6 (io), 20 RB7 (io), 21 OSC1/CLKIN (in), 22 OSC2/CLKOUT (out), 23 RA5/TX/CK (io), 24 RA4/RX/DT (io), 25 RA3 (io), 26 RA2 (io), 27 RA1/T0CKI (in), 28 RA0/INT (in), 29 TEST (in), 30 RE2/~{WR} (io), 31 RE1/~{OE} (io), 32 RE0/ALE (io), 33 VSS (power), 34 VSS (power), 35 ~{MCLR}/VPP (in), 36 RD7/AD15 (io), 37 RD6/AD14 (io), 38 RD5/AD13 (io), 39 RD4/AD12 (io), 40 RD3/AD11 (io), 41 RD2/AD10 (io), 42 RD1/AD9 (io), 43 RD0/AD8 (io), 44 VDD (power)

## PIC17C43-16/P
designator U?
High-Performance 8-Bit CMOS EPROM Microcontroller, 4K EPROM, 16 MHz, 40-Pin PDIP, Standard VDD Range, Commercial Temperature; Note: Not recommended for new designs. Consider PIC18F4320 instead.; Note: Pins RA2 and RA3 can sink up to 60 mA.; Published: 11-Oct-2004; LatestRevisionDate: 04-Mar-2005; LatestRevisionNote: Stylized 3D Model Added.; DatasheetVersion: DS30412C_1996; PackageVersion: 2003; PackageReference: PDIP600-40; Publisher: Altium Limited; PackageDescription: DIP, Plastic; 40 Leads; Row Spacing 15.24 mm; Pitch 2.54 mm; Code_JEDEC: MO-011; ComponentLink1Description: Manufacturer Link; ComponentLink1URL: http://www.microchip.com; ComponentLink2Description: Datasheet; ComponentLink2URL: http://ww1.microchip.com/downloads/en/DeviceDoc/30412c.pdf; ComponentLink3Description: Packaging Specification; ComponentLink3URL: http://ww1.microchip.com/downloads/en/PackagingSpec/00049AD.pdf
footprint PDIP600-40 (DIP, Plastic; 40 Leads; Row Spacing 15.24 mm; Pitch 2.54 mm)
3D model PDIP600-40 (DIP, Plastic; 40 Leads; Row Spacing 15.24 mm; Pitch 2.54 mm)
pins: 1 VDD (power), 2 RC0/AD0 (io), 3 RC1/AD1 (io), 4 RC2/AD2 (io), 5 RC3/AD3 (io), 6 RC4/AD4 (io), 7 RC5/AD5 (io), 8 RC6/AD6 (io), 9 RC7/AD7 (io), 10 VSS (power), 11 RB0/CAP1 (io), 12 RB1/CAP2 (io), 13 RB2/PWM1 (io), 14 RB3/PWM2 (io), 15 RB4/TCLK12 (io), 16 RB5/TCLK3 (io), 17 RB6 (io), 18 RB7 (io), 19 OSC1/CLKIN (in), 20 OSC2/CLKOUT (out), 21 RA5/TX/CK (io), 22 RA4/RX/DT (io), 23 RA3 (io), 24 RA2 (io), 25 RA1/T0CKI (in), 26 RA0/INT (in), 27 TEST (in), 28 RE2/~{WR} (io), 29 RE1/~{OE} (io), 30 RE0/ALE (io), 31 VSS (power), 32 ~{MCLR}/VPP (in), 33 RD7/AD15 (io), 34 RD6/AD14 (io), 35 RD5/AD13 (io), 36 RD4/AD12 (io), 37 RD3/AD11 (io), 38 RD2/AD10 (io), 39 RD1/AD9 (io), 40 RD0/AD8 (io)

## PIC17C43-16/PQ
designator U?
High-Performance 8-Bit CMOS EPROM Microcontroller, 4K EPROM, 16 MHz, 44-Pin MQFP, Standard VDD Range, Commercial Temperature; Note: Not recommended for new designs. Consider PIC18F4320 instead.; Note: Pins RA2 and RA3 can sink up to 60 mA.; Published: 11-Oct-2004; LatestRevisionDate: 13-Apr-2006; LatestRevisionNote: IPC-7351 Footprint Added.; DatasheetVersion: DS30412C_1996; PackageVersion: 2003; PackageReference: MQFP-44; Publisher: Altium Limited; PackageDescription: 44-Pin Plastic Metric Quad Flat Pack 0.8 mm Pitch, 1.6/0.15 mm Lead Form; Code_JEDEC: MS-022; Code_IPC: QFP80P1320X1320-44; ComponentLink1Description: Manufacturer Link; ComponentLink1URL: http://www.microchip.com; ComponentLink2Description: Datasheet; ComponentLink2URL: http://ww1.microchip.com/downloads/en/DeviceDoc/30412c.pdf; ComponentLink3Description: Packaging Specification; ComponentLink3URL: http://ww1.microchip.com/downloads/en/PackagingSpec/00049AD.pdf
footprint MQFP-44_N (QFP, 44-Leads, Body 10x10mm, Pitch 0.8mm, IPC Medium Density)
footprint MQFP-44_L (QFP, 44-Leads, Body 10x10mm, Pitch 0.8mm, IPC High Density)
footprint MQFP-44_M (QFP, 44-Leads, Body 10x10mm, Pitch 0.8mm, IPC Low Density)
3D model PIC17C43-MQFP-44 (44-Pin Plastic Metric Quad Flat Pack 0.8 mm Pitch, 1.6/0.15 mm Lead Form)
pins: 1 TEST (in), 2 RE2/~{WR} (io), 3 RE1/~{OE} (io), 4 RE0/ALE (io), 5 VSS (power), 6 VSS (power), 7 ~{MCLR}/VPP (in), 8 RD7/AD15 (io), 9 RD6/AD14 (io), 10 RD5/AD13 (io), 11 RD4/AD12 (io), 12 RD3/AD11 (io), 13 RD2/AD10 (io), 14 RD1/AD9 (io), 15 RD0/AD8 (io), 16 VDD (power), 17 VDD (power), 18 NC, 19 RC0/AD0 (io), 20 RC1/AD1 (io), 21 RC2/AD2 (io), 22 RC3/AD3 (io), 23 RC4/AD4 (io), 24 RC5/AD5 (io), 25 RC6/AD6 (io), 26 RC7/AD7 (io), 27 VSS (power), 28 VSS (power), 29 RB0/CAP1 (io), 30 RB1/CAP2 (io), 31 RB2/PWM1 (io), 32 RB3/PWM2 (io), 33 RB4/TCLK12 (io), 34 RB5/TCLK3 (io), 35 RB6 (io), 36 RB7 (io), 37 OSC1/CLKIN (in), 38 OSC2/CLKOUT (out), 39 RA5/TX/CK (io), 40 RA4/RX/DT (io), 41 RA3 (io), 42 RA2 (io), 43 RA1/T0CKI (in), 44 RA0/INT (in)

## PIC17C43-16/PT
designator U?
High-Performance 8-Bit CMOS EPROM Microcontroller, 4K EPROM, 16 MHz, 44-Pin TQFP, Standard VDD Range, Commercial Temperature; Note: Not recommended for new designs. Consider PIC18F4320 instead.; Note: Pins RA2 and RA3 can sink up to 60 mA.; Published: 11-Oct-2004; LatestRevisionDate: 13-Apr-2006; LatestRevisionNote: IPC-7351 Footprint Added.; DatasheetVersion: DS30412C_1996; PackageVersion: 2003; PackageReference: TQFP-44; Publisher: Altium Limited; PackageDescription: 44-Pin Thin Quad Flat Pack 0.8 mm Pitch, 1.0/0.1 mm Lead Form; Code_JEDEC: MS-026; ComponentLink1Description: Manufacturer Link; ComponentLink1URL: http://www.microchip.com; ComponentLink2Description: Datasheet; ComponentLink2URL: http://ww1.microchip.com/downloads/en/DeviceDoc/30412c.pdf; ComponentLink3Description: Packaging Specification; ComponentLink3URL: http://ww1.microchip.com/downloads/en/PackagingSpec/00049AD.pdf
footprint TQFP-44_N (Thin QFP, 44-Leads, Body 10x10mm, Pitch 0.8mm, IPC Medium Density)
footprint TQFP-44_L (Thin QFP, 44-Leads, Body 10x10mm, Pitch 0.8mm, IPC High Density)
footprint TQFP-44_M (Thin QFP, 44-Leads, Body 10x10mm, Pitch 0.8mm, IPC Low Density)
3D model PIC17C43-TQFP-44 (44-Pin Thin Quad Flat Pack 0.8 mm Pitch, 1.0/0.1 mm Lead Form)
pins: 1 TEST (in), 2 RE2/~{WR} (io), 3 RE1/~{OE} (io), 4 RE0/ALE (io), 5 VSS (power), 6 VSS (power), 7 ~{MCLR}/VPP (in), 8 RD7/AD15 (io), 9 RD6/AD14 (io), 10 RD5/AD13 (io), 11 RD4/AD12 (io), 12 RD3/AD11 (io), 13 RD2/AD10 (io), 14 RD1/AD9 (io), 15 RD0/AD8 (io), 16 VDD (power), 17 VDD (power), 18 NC, 19 RC0/AD0 (io), 20 RC1/AD1 (io), 21 RC2/AD2 (io), 22 RC3/AD3 (io), 23 RC4/AD4 (io), 24 RC5/AD5 (io), 25 RC6/AD6 (io), 26 RC7/AD7 (io), 27 VSS (power), 28 VSS (power), 29 RB0/CAP1 (io), 30 RB1/CAP2 (io), 31 RB2/PWM1 (io), 32 RB3/PWM2 (io), 33 RB4/TCLK12 (io), 34 RB5/TCLK3 (io), 35 RB6 (io), 36 RB7 (io), 37 OSC1/CLKIN (in), 38 OSC2/CLKOUT (out), 39 RA5/TX/CK (io), 40 RA4/RX/DT (io), 41 RA3 (io), 42 RA2 (io), 43 RA1/T0CKI (in), 44 RA0/INT (in)

## PIC17C43-16E/L
designator U?
High-Performance 8-Bit CMOS EPROM Microcontroller, 4K EPROM, 16 MHz, 44-Pin PLCC, Standard VDD Range, Extended Temperature; Note: Not recommended for new designs. Consider PIC18F4320 instead.; Note: Pins RA2 and RA3 can sink up to 60 mA.; Published: 11-Oct-2004; LatestRevisionDate: 13-Apr-2006; LatestRevisionNote: IPC-7351 Footprint Added.; DatasheetVersion: DS30412C_1996; PackageVersion: 2003; PackageReference: PLCC-44; Publisher: Altium Limited; PackageDescription: 44-Pin Leaded Chip Carrier 1.27 mm Pitch; Code_JEDEC: MO-047; Code_IPC: PLCC-44; ComponentLink1Description: Manufacturer Link; ComponentLink1URL: http://www.microchip.com; ComponentLink2Description: Datasheet; ComponentLink2URL: http://ww1.microchip.com/downloads/en/DeviceDoc/30412c.pdf; ComponentLink3Description: Packaging Specification; ComponentLink3URL: http://ww1.microchip.com/downloads/en/PackagingSpec/00049AD.pdf
footprint PLCC-44_N (Leaded Chip Carrier, 44-Leads, Body 16.6x16.6mm, Pitch 1.27mm, IPC Medium Density)
footprint PLCC-44_L (Leaded Chip Carrier, 44-Leads, Body 16.6x16.6mm, Pitch 1.27mm, IPC High Density)
footprint PLCC-44_M (Leaded Chip Carrier, 44-Leads, Body 16.6x16.6mm, Pitch 1.27mm, IPC Low Density)
3D model PIC17C43-PLCC-44 (44-Pin Leaded Chip Carrier 1.27 mm Pitch)
pins: 1 VDD (power), 2 NC, 3 RC0/AD0 (io), 4 RC1/AD1 (io), 5 RC2/AD2 (io), 6 RC3/AD3 (io), 7 RC4/AD4 (io), 8 RC5/AD5 (io), 9 RC6/AD6 (io), 10 RC7/AD7 (io), 11 VSS (power), 12 VSS (power), 13 RB0/CAP1 (io), 14 RB1/CAP2 (io), 15 RB2/PWM1 (io), 16 RB3/PWM2 (io), 17 RB4/TCLK12 (io), 18 RB5/TCLK3 (io), 19 RB6 (io), 20 RB7 (io), 21 OSC1/CLKIN (in), 22 OSC2/CLKOUT (out), 23 RA5/TX/CK (io), 24 RA4/RX/DT (io), 25 RA3 (io), 26 RA2 (io), 27 RA1/T0CKI (in), 28 RA0/INT (in), 29 TEST (in), 30 RE2/~{WR} (io), 31 RE1/~{OE} (io), 32 RE0/ALE (io), 33 VSS (power), 34 VSS (power), 35 ~{MCLR}/VPP (in), 36 RD7/AD15 (io), 37 RD6/AD14 (io), 38 RD5/AD13 (io), 39 RD4/AD12 (io), 40 RD3/AD11 (io), 41 RD2/AD10 (io), 42 RD1/AD9 (io), 43 RD0/AD8 (io), 44 VDD (power)

## PIC17C43-16E/P
designator U?
High-Performance 8-Bit CMOS EPROM Microcontroller, 4K EPROM, 16 MHz, 40-Pin PDIP, Standard VDD Range, Extended Temperature; Note: Not recommended for new designs. Consider PIC18F4320 instead.; Note: Pins RA2 and RA3 can sink up to 60 mA.; Published: 11-Oct-2004; LatestRevisionDate: 04-Mar-2005; LatestRevisionNote: Stylized 3D Model Added.; DatasheetVersion: DS30412C_1996; PackageVersion: 2003; PackageReference: PDIP600-40; Publisher: Altium Limited; PackageDescription: DIP, Plastic; 40 Leads; Row Spacing 15.24 mm; Pitch 2.54 mm; Code_JEDEC: MO-011; ComponentLink1Description: Manufacturer Link; ComponentLink1URL: http://www.microchip.com; ComponentLink2Description: Datasheet; ComponentLink2URL: http://ww1.microchip.com/downloads/en/DeviceDoc/30412c.pdf; ComponentLink3Description: Packaging Specification; ComponentLink3URL: http://ww1.microchip.com/downloads/en/PackagingSpec/00049AD.pdf
footprint PDIP600-40 (DIP, Plastic; 40 Leads; Row Spacing 15.24 mm; Pitch 2.54 mm)
3D model PDIP600-40 (DIP, Plastic; 40 Leads; Row Spacing 15.24 mm; Pitch 2.54 mm)
pins: 1 VDD (power), 2 RC0/AD0 (io), 3 RC1/AD1 (io), 4 RC2/AD2 (io), 5 RC3/AD3 (io), 6 RC4/AD4 (io), 7 RC5/AD5 (io), 8 RC6/AD6 (io), 9 RC7/AD7 (io), 10 VSS (power), 11 RB0/CAP1 (io), 12 RB1/CAP2 (io), 13 RB2/PWM1 (io), 14 RB3/PWM2 (io), 15 RB4/TCLK12 (io), 16 RB5/TCLK3 (io), 17 RB6 (io), 18 RB7 (io), 19 OSC1/CLKIN (in), 20 OSC2/CLKOUT (out), 21 RA5/TX/CK (io), 22 RA4/RX/DT (io), 23 RA3 (io), 24 RA2 (io), 25 RA1/T0CKI (in), 26 RA0/INT (in), 27 TEST (in), 28 RE2/~{WR} (io), 29 RE1/~{OE} (io), 30 RE0/ALE (io), 31 VSS (power), 32 ~{MCLR}/VPP (in), 33 RD7/AD15 (io), 34 RD6/AD14 (io), 35 RD5/AD13 (io), 36 RD4/AD12 (io), 37 RD3/AD11 (io), 38 RD2/AD10 (io), 39 RD1/AD9 (io), 40 RD0/AD8 (io)

## PIC17C43-16E/PQ
designator U?
High-Performance 8-Bit CMOS EPROM Microcontroller, 4K EPROM, 16 MHz, 44-Pin MQFP, Standard VDD Range, Extended Temperature; Note: Not recommended for new designs. Consider PIC18F4320 instead.; Note: Pins RA2 and RA3 can sink up to 60 mA.; Published: 11-Oct-2004; LatestRevisionDate: 13-Apr-2006; LatestRevisionNote: IPC-7351 Footprint Added.; DatasheetVersion: DS30412C_1996; PackageVersion: 2003; PackageReference: MQFP-44; Publisher: Altium Limited; PackageDescription: 44-Pin Plastic Metric Quad Flat Pack 0.8 mm Pitch, 1.6/0.15 mm Lead Form; Code_JEDEC: MS-022; Code_IPC: QFP80P1320X1320-44; ComponentLink1Description: Manufacturer Link; ComponentLink1URL: http://www.microchip.com; ComponentLink2Description: Datasheet; ComponentLink2URL: http://ww1.microchip.com/downloads/en/DeviceDoc/30412c.pdf; ComponentLink3Description: Packaging Specification; ComponentLink3URL: http://ww1.microchip.com/downloads/en/PackagingSpec/00049AD.pdf
footprint MQFP-44_N (QFP, 44-Leads, Body 10x10mm, Pitch 0.8mm, IPC Medium Density)
footprint MQFP-44_L (QFP, 44-Leads, Body 10x10mm, Pitch 0.8mm, IPC High Density)
footprint MQFP-44_M (QFP, 44-Leads, Body 10x10mm, Pitch 0.8mm, IPC Low Density)
3D model PIC17C43-MQFP-44 (44-Pin Plastic Metric Quad Flat Pack 0.8 mm Pitch, 1.6/0.15 mm Lead Form)
pins: 1 TEST (in), 2 RE2/~{WR} (io), 3 RE1/~{OE} (io), 4 RE0/ALE (io), 5 VSS (power), 6 VSS (power), 7 ~{MCLR}/VPP (in), 8 RD7/AD15 (io), 9 RD6/AD14 (io), 10 RD5/AD13 (io), 11 RD4/AD12 (io), 12 RD3/AD11 (io), 13 RD2/AD10 (io), 14 RD1/AD9 (io), 15 RD0/AD8 (io), 16 VDD (power), 17 VDD (power), 18 NC, 19 RC0/AD0 (io), 20 RC1/AD1 (io), 21 RC2/AD2 (io), 22 RC3/AD3 (io), 23 RC4/AD4 (io), 24 RC5/AD5 (io), 25 RC6/AD6 (io), 26 RC7/AD7 (io), 27 VSS (power), 28 VSS (power), 29 RB0/CAP1 (io), 30 RB1/CAP2 (io), 31 RB2/PWM1 (io), 32 RB3/PWM2 (io), 33 RB4/TCLK12 (io), 34 RB5/TCLK3 (io), 35 RB6 (io), 36 RB7 (io), 37 OSC1/CLKIN (in), 38 OSC2/CLKOUT (out), 39 RA5/TX/CK (io), 40 RA4/RX/DT (io), 41 RA3 (io), 42 RA2 (io), 43 RA1/T0CKI (in), 44 RA0/INT (in)

## PIC17C43-16E/PT
designator U?
High-Performance 8-Bit CMOS EPROM Microcontroller, 4K EPROM, 16 MHz, 44-Pin TQFP, Standard VDD Range, Extended Temperature; Note: Not recommended for new designs. Consider PIC18F4320 instead.; Note: Pins RA2 and RA3 can sink up to 60 mA.; Published: 11-Oct-2004; LatestRevisionDate: 13-Apr-2006; LatestRevisionNote: IPC-7351 Footprint Added.; DatasheetVersion: DS30412C_1996; PackageVersion: 2003; PackageReference: TQFP-44; Publisher: Altium Limited; PackageDescription: 44-Pin Thin Quad Flat Pack 0.8 mm Pitch, 1.0/0.1 mm Lead Form; Code_JEDEC: MS-026; ComponentLink1Description: Manufacturer Link; ComponentLink1URL: http://www.microchip.com; ComponentLink2Description: Datasheet; ComponentLink2URL: http://ww1.microchip.com/downloads/en/DeviceDoc/30412c.pdf; ComponentLink3Description: Packaging Specification; ComponentLink3URL: http://ww1.microchip.com/downloads/en/PackagingSpec/00049AD.pdf
footprint TQFP-44_N (Thin QFP, 44-Leads, Body 10x10mm, Pitch 0.8mm, IPC Medium Density)
footprint TQFP-44_L (Thin QFP, 44-Leads, Body 10x10mm, Pitch 0.8mm, IPC High Density)
footprint TQFP-44_M (Thin QFP, 44-Leads, Body 10x10mm, Pitch 0.8mm, IPC Low Density)
3D model PIC17C43-TQFP-44 (44-Pin Thin Quad Flat Pack 0.8 mm Pitch, 1.0/0.1 mm Lead Form)
pins: 1 TEST (in), 2 RE2/~{WR} (io), 3 RE1/~{OE} (io), 4 RE0/ALE (io), 5 VSS (power), 6 VSS (power), 7 ~{MCLR}/VPP (in), 8 RD7/AD15 (io), 9 RD6/AD14 (io), 10 RD5/AD13 (io), 11 RD4/AD12 (io), 12 RD3/AD11 (io), 13 RD2/AD10 (io), 14 RD1/AD9 (io), 15 RD0/AD8 (io), 16 VDD (power), 17 VDD (power), 18 NC, 19 RC0/AD0 (io), 20 RC1/AD1 (io), 21 RC2/AD2 (io), 22 RC3/AD3 (io), 23 RC4/AD4 (io), 24 RC5/AD5 (io), 25 RC6/AD6 (io), 26 RC7/AD7 (io), 27 VSS (power), 28 VSS (power), 29 RB0/CAP1 (io), 30 RB1/CAP2 (io), 31 RB2/PWM1 (io), 32 RB3/PWM2 (io), 33 RB4/TCLK12 (io), 34 RB5/TCLK3 (io), 35 RB6 (io), 36 RB7 (io), 37 OSC1/CLKIN (in), 38 OSC2/CLKOUT (out), 39 RA5/TX/CK (io), 40 RA4/RX/DT (io), 41 RA3 (io), 42 RA2 (io), 43 RA1/T0CKI (in), 44 RA0/INT (in)

## PIC17C43-16I/L
designator U?
High-Performance 8-Bit CMOS EPROM Microcontroller, 4K EPROM, 16 MHz, 44-Pin PLCC, Standard VDD Range, Industrial Temperature; Note: Not recommended for new designs. Consider PIC18F4320 instead.; Note: Pins RA2 and RA3 can sink up to 60 mA.; Published: 11-Oct-2004; LatestRevisionDate: 13-Apr-2006; LatestRevisionNote: IPC-7351 Footprint Added.; DatasheetVersion: DS30412C_1996; PackageVersion: 2003; PackageReference: PLCC-44; Publisher: Altium Limited; PackageDescription: 44-Pin Leaded Chip Carrier 1.27 mm Pitch; Code_JEDEC: MO-047; Code_IPC: PLCC-44; ComponentLink1Description: Manufacturer Link; ComponentLink1URL: http://www.microchip.com; ComponentLink2Description: Datasheet; ComponentLink2URL: http://ww1.microchip.com/downloads/en/DeviceDoc/30412c.pdf; ComponentLink3Description: Packaging Specification; ComponentLink3URL: http://ww1.microchip.com/downloads/en/PackagingSpec/00049AD.pdf
footprint PLCC-44_N (Leaded Chip Carrier, 44-Leads, Body 16.6x16.6mm, Pitch 1.27mm, IPC Medium Density)
footprint PLCC-44_L (Leaded Chip Carrier, 44-Leads, Body 16.6x16.6mm, Pitch 1.27mm, IPC High Density)
footprint PLCC-44_M (Leaded Chip Carrier, 44-Leads, Body 16.6x16.6mm, Pitch 1.27mm, IPC Low Density)
3D model PIC17C43-PLCC-44 (44-Pin Leaded Chip Carrier 1.27 mm Pitch)
pins: 1 VDD (power), 2 NC, 3 RC0/AD0 (io), 4 RC1/AD1 (io), 5 RC2/AD2 (io), 6 RC3/AD3 (io), 7 RC4/AD4 (io), 8 RC5/AD5 (io), 9 RC6/AD6 (io), 10 RC7/AD7 (io), 11 VSS (power), 12 VSS (power), 13 RB0/CAP1 (io), 14 RB1/CAP2 (io), 15 RB2/PWM1 (io), 16 RB3/PWM2 (io), 17 RB4/TCLK12 (io), 18 RB5/TCLK3 (io), 19 RB6 (io), 20 RB7 (io), 21 OSC1/CLKIN (in), 22 OSC2/CLKOUT (out), 23 RA5/TX/CK (io), 24 RA4/RX/DT (io), 25 RA3 (io), 26 RA2 (io), 27 RA1/T0CKI (in), 28 RA0/INT (in), 29 TEST (in), 30 RE2/~{WR} (io), 31 RE1/~{OE} (io), 32 RE0/ALE (io), 33 VSS (power), 34 VSS (power), 35 ~{MCLR}/VPP (in), 36 RD7/AD15 (io), 37 RD6/AD14 (io), 38 RD5/AD13 (io), 39 RD4/AD12 (io), 40 RD3/AD11 (io), 41 RD2/AD10 (io), 42 RD1/AD9 (io), 43 RD0/AD8 (io), 44 VDD (power)

## PIC17C43-16I/P
designator U?
High-Performance 8-Bit CMOS EPROM Microcontroller, 4K EPROM, 16 MHz, 40-Pin PDIP, Standard VDD Range, Industrial Temperature; Note: Not recommended for new designs. Consider PIC18F4320 instead.; Note: Pins RA2 and RA3 can sink up to 60 mA.; Published: 11-Oct-2004; LatestRevisionDate: 04-Mar-2005; LatestRevisionNote: Stylized 3D Model Added.; DatasheetVersion: DS30412C_1996; PackageVersion: 2003; PackageReference: PDIP600-40; Publisher: Altium Limited; PackageDescription: DIP, Plastic; 40 Leads; Row Spacing 15.24 mm; Pitch 2.54 mm; Code_JEDEC: MO-011; ComponentLink1Description: Manufacturer Link; ComponentLink1URL: http://www.microchip.com; ComponentLink2Description: Datasheet; ComponentLink2URL: http://ww1.microchip.com/downloads/en/DeviceDoc/30412c.pdf; ComponentLink3Description: Packaging Specification; ComponentLink3URL: http://ww1.microchip.com/downloads/en/PackagingSpec/00049AD.pdf
footprint PDIP600-40 (DIP, Plastic; 40 Leads; Row Spacing 15.24 mm; Pitch 2.54 mm)
3D model PDIP600-40 (DIP, Plastic; 40 Leads; Row Spacing 15.24 mm; Pitch 2.54 mm)
pins: 1 VDD (power), 2 RC0/AD0 (io), 3 RC1/AD1 (io), 4 RC2/AD2 (io), 5 RC3/AD3 (io), 6 RC4/AD4 (io), 7 RC5/AD5 (io), 8 RC6/AD6 (io), 9 RC7/AD7 (io), 10 VSS (power), 11 RB0/CAP1 (io), 12 RB1/CAP2 (io), 13 RB2/PWM1 (io), 14 RB3/PWM2 (io), 15 RB4/TCLK12 (io), 16 RB5/TCLK3 (io), 17 RB6 (io), 18 RB7 (io), 19 OSC1/CLKIN (in), 20 OSC2/CLKOUT (out), 21 RA5/TX/CK (io), 22 RA4/RX/DT (io), 23 RA3 (io), 24 RA2 (io), 25 RA1/T0CKI (in), 26 RA0/INT (in), 27 TEST (in), 28 RE2/~{WR} (io), 29 RE1/~{OE} (io), 30 RE0/ALE (io), 31 VSS (power), 32 ~{MCLR}/VPP (in), 33 RD7/AD15 (io), 34 RD6/AD14 (io), 35 RD5/AD13 (io), 36 RD4/AD12 (io), 37 RD3/AD11 (io), 38 RD2/AD10 (io), 39 RD1/AD9 (io), 40 RD0/AD8 (io)

## PIC17C43-16I/PQ
designator U?
High-Performance 8-Bit CMOS EPROM Microcontroller, 4K EPROM, 16 MHz, 44-Pin MQFP, Standard VDD Range, Industrial Temperature; Note: Not recommended for new designs. Consider PIC18F4320 instead.; Note: Pins RA2 and RA3 can sink up to 60 mA.; Published: 11-Oct-2004; LatestRevisionDate: 13-Apr-2006; LatestRevisionNote: IPC-7351 Footprint Added.; DatasheetVersion: DS30412C_1996; PackageVersion: 2003; PackageReference: MQFP-44; Publisher: Altium Limited; PackageDescription: 44-Pin Plastic Metric Quad Flat Pack 0.8 mm Pitch, 1.6/0.15 mm Lead Form; Code_JEDEC: MS-022; Code_IPC: QFP80P1320X1320-44; ComponentLink1Description: Manufacturer Link; ComponentLink1URL: http://www.microchip.com; ComponentLink2Description: Datasheet; ComponentLink2URL: http://ww1.microchip.com/downloads/en/DeviceDoc/30412c.pdf; ComponentLink3Description: Packaging Specification; ComponentLink3URL: http://ww1.microchip.com/downloads/en/PackagingSpec/00049AD.pdf
footprint MQFP-44_N (QFP, 44-Leads, Body 10x10mm, Pitch 0.8mm, IPC Medium Density)
footprint MQFP-44_L (QFP, 44-Leads, Body 10x10mm, Pitch 0.8mm, IPC High Density)
footprint MQFP-44_M (QFP, 44-Leads, Body 10x10mm, Pitch 0.8mm, IPC Low Density)
3D model PIC17C43-MQFP-44 (44-Pin Plastic Metric Quad Flat Pack 0.8 mm Pitch, 1.6/0.15 mm Lead Form)
pins: 1 TEST (in), 2 RE2/~{WR} (io), 3 RE1/~{OE} (io), 4 RE0/ALE (io), 5 VSS (power), 6 VSS (power), 7 ~{MCLR}/VPP (in), 8 RD7/AD15 (io), 9 RD6/AD14 (io), 10 RD5/AD13 (io), 11 RD4/AD12 (io), 12 RD3/AD11 (io), 13 RD2/AD10 (io), 14 RD1/AD9 (io), 15 RD0/AD8 (io), 16 VDD (power), 17 VDD (power), 18 NC, 19 RC0/AD0 (io), 20 RC1/AD1 (io), 21 RC2/AD2 (io), 22 RC3/AD3 (io), 23 RC4/AD4 (io), 24 RC5/AD5 (io), 25 RC6/AD6 (io), 26 RC7/AD7 (io), 27 VSS (power), 28 VSS (power), 29 RB0/CAP1 (io), 30 RB1/CAP2 (io), 31 RB2/PWM1 (io), 32 RB3/PWM2 (io), 33 RB4/TCLK12 (io), 34 RB5/TCLK3 (io), 35 RB6 (io), 36 RB7 (io), 37 OSC1/CLKIN (in), 38 OSC2/CLKOUT (out), 39 RA5/TX/CK (io), 40 RA4/RX/DT (io), 41 RA3 (io), 42 RA2 (io), 43 RA1/T0CKI (in), 44 RA0/INT (in)

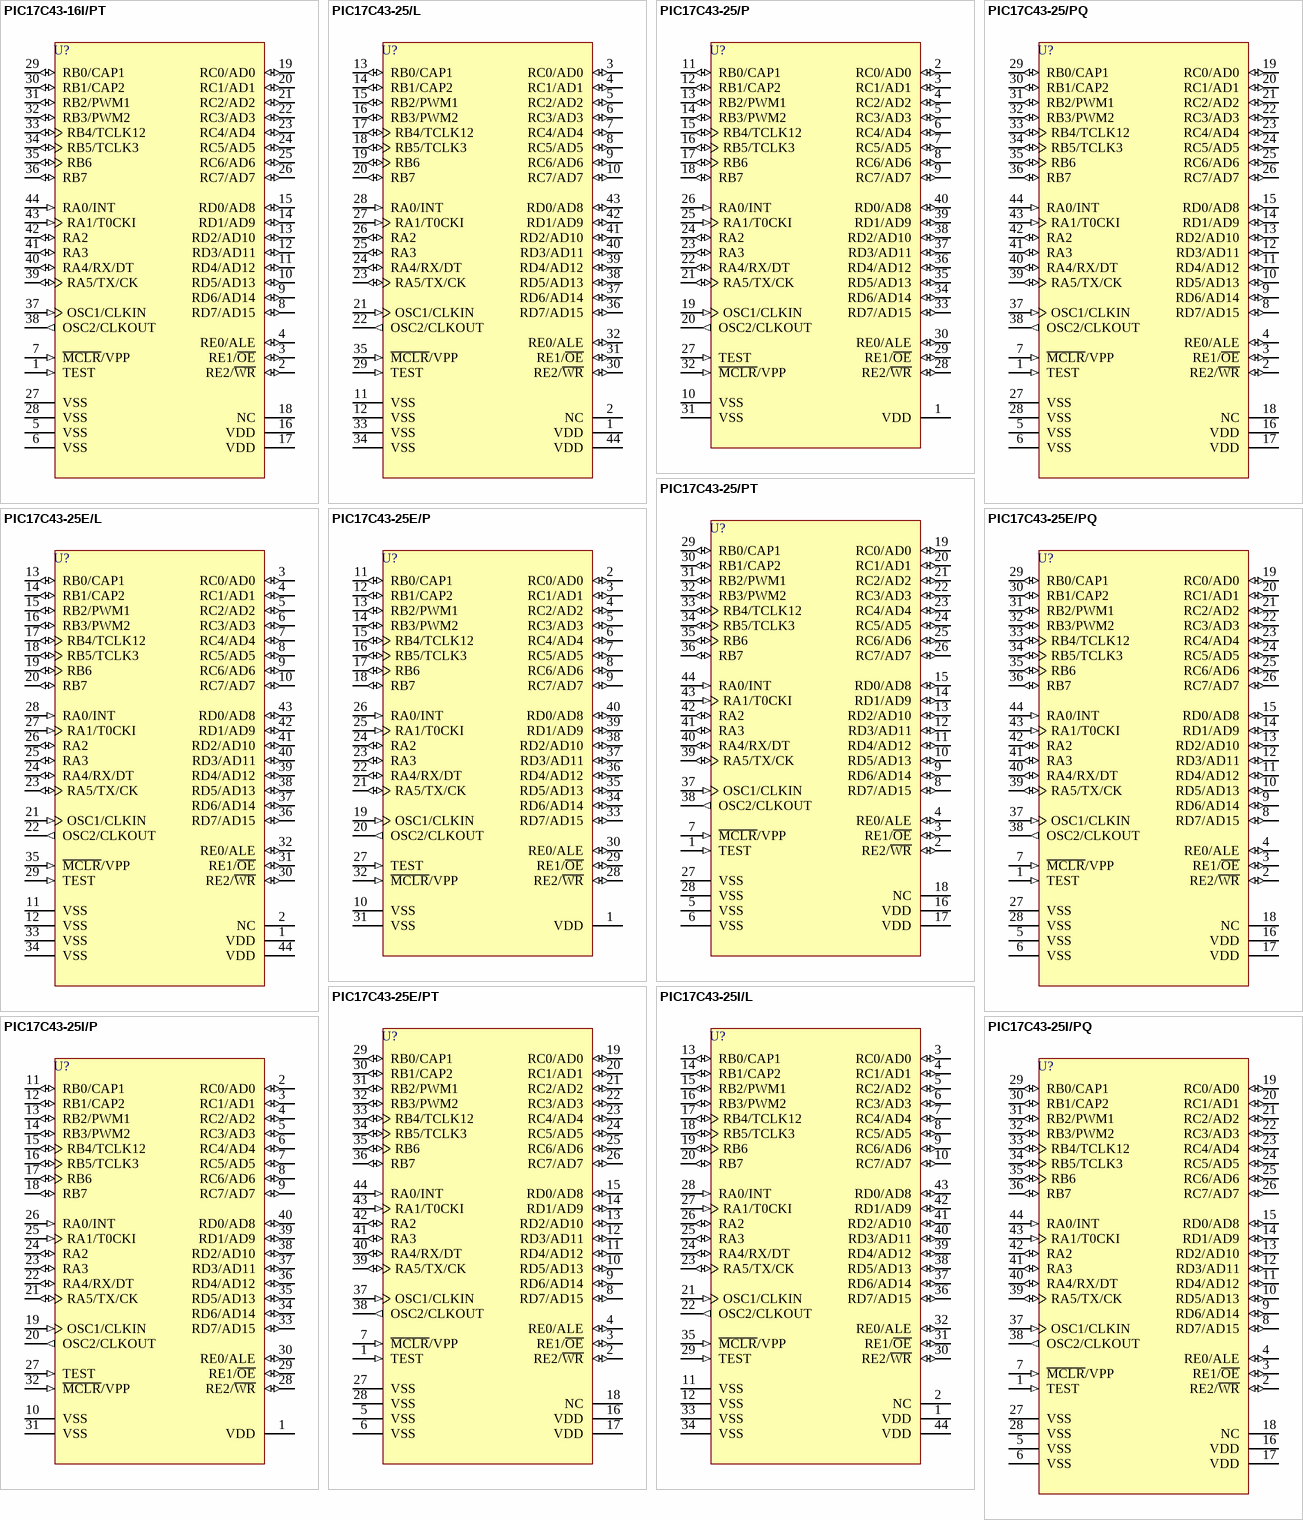
[diagram p6: symbols PIC17C43-16I/PT to PIC17C43-25I/PQ]